# Altium schematic symbol library SLA6012.SchLib: 1 symbol
Pins are listed as number, name and electrical type; pins without a type are passive.

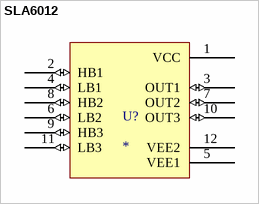
[diagram p0: symbol SLA6012]

## SLA6012
designator U?
3-Phase Motor Driver 60V 4A
footprint SIP12
pins: 1 VCC (power), 2 HB1 (io), 3 OUT1 (io), 4 LB1 (io), 5 VEE1 (power), 6 LB2 (io), 7 OUT2 (io), 8 HB2 (io), 9 HB3 (io), 10 OUT3 (io), 11 LB3 (io), 12 VEE2 (power)